# Altium schematic symbol library Hillcrest Laboratories.SchLib: 1 symbol
Pins are listed as number, name and electrical type; pins without a type are passive.

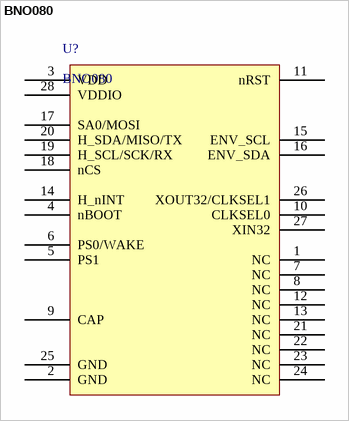
[diagram p0: symbol BNO080]

## BNO080
designator U?
pins: 1 NC, 2 GND, 3 VDD, 4 nBOOT, 5 PS1, 6 PS0/WAKE, 7 NC, 8 NC, 9 CAP, 10 CLKSEL0, 11 nRST, 12 NC, 13 NC, 14 H_nINT, 15 ENV_SCL, 16 ENV_SDA, 17 SA0/MOSI, 18 nCS, 19 H_SCL/SCK/RX, 20 H_SDA/MISO/TX, 21 NC, 22 NC, 23 NC, 24 NC, 25 GND, 26 XOUT32/CLKSEL1, 27 XIN32, 28 VDDIO